# EAGLE library part THS3091 (library wg_library)
THS309x High-voltage, Low-distortion, Current-feedback Operational Amplifiers Source: http://www.ti.com/lit/ds/symlink/ths3091.pdf
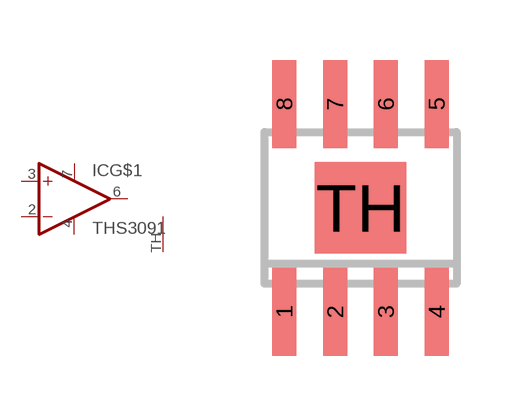
[diagram p2: symbol with the pads of R-PDSO-G8; footprint R-PDSO-G8]

Designator prefix IC; gates G$1=OPAMP+- G$2=THERMAL

## THS3091DDA  [R-PDSO-G8]
2  G$1:-IN  in
3  G$1:+IN  in
4  G$1:V-  pwr
6  G$1:OUT  out
7  G$1:V+  pwr
TH  G$2:TH  pas

## Footprint R-PDSO-G8 (pad centres in mm)
smd 0.6 x 2.2: 1 -1.905,-2.6; 2 -0.635,-2.6; 3 0.635,-2.6; 4 1.905,-2.6; 5 1.905,2.6; 6 0.635,2.6; 7 -0.635,2.6; 8 -1.905,2.6
smd 2.28 x 2.28: TH 0,0